# EAGLE library part 1SPARKFUN-CONNECTORS_CONN_15X2_ZHU (library TRACKER SOM EVAL BOARD v1.0)
Multi connection point. Often used as Generic Header-pin footprint for 0.1 inch spaced/style header connections On any of the 0.1 inch spaced packages, you can populate with these: Break Away Headers - Straight <https://www.sparkfun.com/products/116> (PRT-00116) Break Away Male Headers - Right Angle <https://www.sparkfun.com/products/553> (PRT-00553) Female Headers <https://www.sparkfun.com/products/115> (PRT-00115) Break Away Headers - Machine Pin <https://www.sparkfun.com/products/117> (PRT-00117) Break Away Female Headers - Swiss Machine Pin <https://www.sparkfun.com/products/743> (PRT-00743)
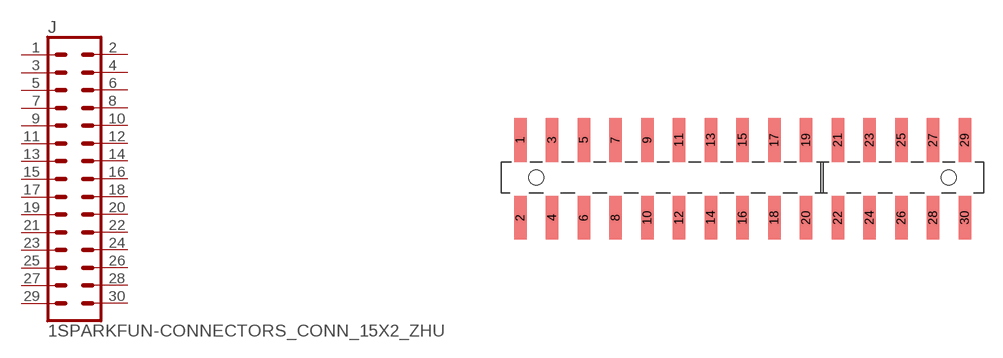
[diagram p2: symbol with the pads of 1SPARKFUN-CONNECTORS_SMD_2*15; footprint 1SPARKFUN-CONNECTORS_SMD_2*15]

Designator prefix J

## 1SPARKFUN-CONNECTORS_CONN_15X2_ZHU  [1SPARKFUN-CONNECTORS_SMD_2*15]
1  1  pas
2  2  pas
3  3  pas
4  4  pas
5  5  pas
6  6  pas
7  7  pas
8  8  pas
9  9  pas
10  10  pas
11  11  pas
12  12  pas
13  13  pas
14  14  pas
15  15  pas
16  16  pas
17  17  pas
18  18  pas
19  19  pas
20  20  pas
21  21  pas
22  22  pas
23  23  pas
24  24  pas
25  25  pas
26  26  pas
27  27  pas
28  28  pas
29  29  pas
30  30  pas

## Footprint 1SPARKFUN-CONNECTORS_SMD_2*15 (pad centres in mm)
smd 1 x 3.5: 1 -1.27,3.013; 2 -1.27,-3.213; 3 1.27,3.013; 4 1.27,-3.213; 5 3.81,3.013; 6 3.81,-3.213; 7 6.35,3.013; 8 6.35,-3.213; 9 8.89,3.013; 10 8.89,-3.213; 11 11.43,3.013; 12 11.43,-3.213; 13 13.97,3.013; 14 13.97,-3.213; 15 16.51,3.013; 16 16.51,-3.213; 17 19.05,3.013; 18 19.05,-3.213; 19 21.59,3.013; 20 21.59,-3.213; 21 24.13,3.013; 22 24.13,-3.213; 23 26.67,3.013; 24 26.67,-3.213; 25 29.21,3.013; 26 29.21,-3.213; 27 31.75,3.013; 28 31.75,-3.213; 29 34.29,3.013; 30 34.29,-3.213
hole 1.2 at 0,0
hole 1.2 at 33.02,0